# Altium footprint library DIP1016W53P254L3468H457Q28N.PcbLib: 1 footprints
Each footprint in its own frame and in the unit in brackets; x right, y up, seen from the top. Pads: shape width x height; smd on the part's side, far side on the other; paste and mask are expansions set on the pad; w line width, h text height; cw(c..) or ccw(c..) is an arc to the next point about the centre after c.
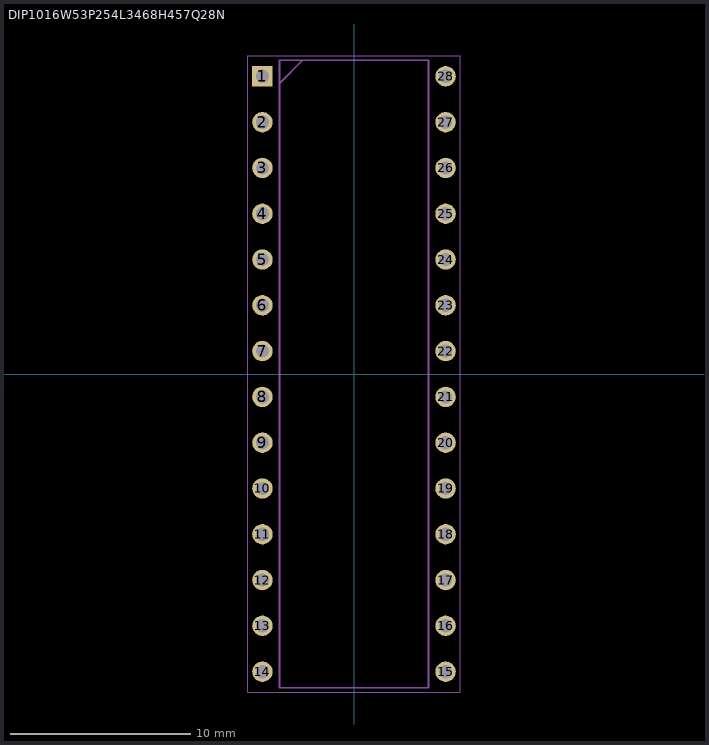
[diagram p0: the footprint, top view; thin cyan lines are the x and y axes]

## DIP1016W53P254L3468H457Q28N [mil]
pads (28):
  rect 44.61x44.61 / inner round 44.61 / far side rect 44.61x44.61 hole 28.86: 1(-200,650)
  round 44.61 hole 28.86: 2(-200,550) 3(-200,450) 4(-200,350) 5(-200,250) 6(-200,150) 7(-200,50) 8(-200,-50) 9(-200,-150) 10(-200,-250) 11(-200,-350) 12(-200,-450) 13(-200,-550) 14(-200,-650) 15(200,-650) 16(200,-550) 17(200,-450) 18(200,-350) 19(200,-250) 20(200,-150) 21(200,-50) 22(200,50) 23(200,150) 24(200,250) 25(200,350) 26(200,450) 27(200,550) 28(200,650)
Mechanical 15:
  lines w3.94: -162.52,635 -112.52,685 ; -162.52,-685 -162.52,685 162.52,685 162.52,-685 -162.52,-685
Mechanical 20:
  lines w1.97: -232.13,-694.84 -232.13,694.84 232.13,694.84 232.13,-694.84 -232.13,-694.84
3D body "ATMEGA328-PU.stp": height 180, standoff -137.8, extent -205.24,-680 205.24,685.2